# Altium schematic symbol library Шим контроллеры.SchLib: 1 symbol
Pins are listed as number, name and electrical type; pins without a type are passive.

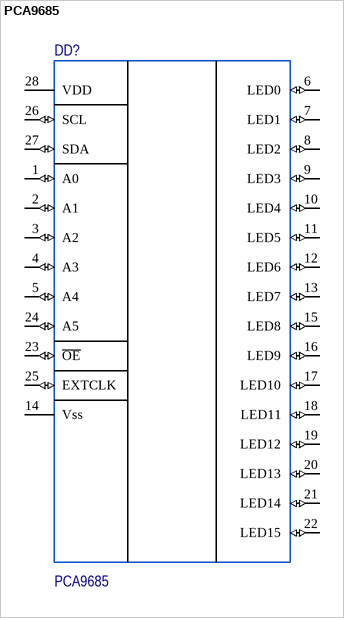
[diagram p0: symbol PCA9685]

## PCA9685
designator DD?
Светодиодный контроллер 12-Бит PWM Fm+ I2C-bus, 16-канальный; Value: PCA9685; Part: *; Alternative part: *; ComponentLink1Description: Link; ComponentLink1URL: *; ComponentLink2Description: Alternative link; ComponentLink2URL: *
footprint TSSOP-28
pins: 1 A0 (io) "I/O", 2 A1 (io) "I/O", 3 A2 (io) "I/O", 4 A3 (io) "I/O", 5 A4 (io) "I/O", 6 LED0 (io) "I/O", 7 LED1 (io) "I/O", 8 LED2 (io) "I/O", 9 LED3 (io) "I/O", 10 LED4 (io) "I/O", 11 LED5 (io) "I/O", 12 LED6 (io) "I/O", 13 LED7 (io) "I/O", 14 Vss (power) "POWER", 15 LED8 (io) "I/O", 16 LED9 (io) "I/O", 17 LED10 (io) "I/O", 18 LED11 (io) "I/O", 19 LED12 (io) "I/O", 20 LED13 (io) "I/O", 21 LED14 (io) "I/O", 22 LED15 (io) "I/O", 23 ~{OE} (io) "I/O", 24 A5 (io) "I/O", 25 EXTCLK (io) "I/O", 26 SCL (io) "I/O", 27 SDA (io) "I/O", 28 VDD (power) "POWER"